# Altium schematic symbol library con-deutsch_2.SCHLIB: 27 symbols (part 2 of 2)
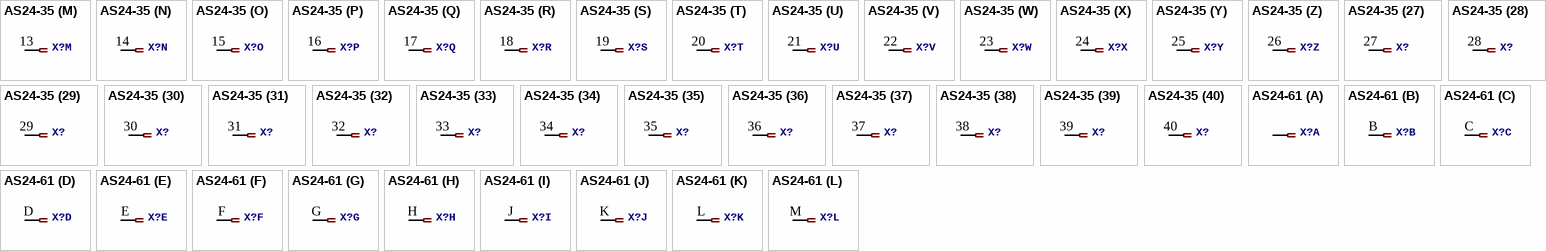
[diagram p17: symbols AS24-35 to AS24-61]

## AS24-35
designator X?, comment DEUTSCH Connector  (value not drawn)
GateName_1: /1; SymbolName_1: PINF_VAL; GateName_2: /2; SymbolName_2: ASPINF; GateName_3: /3; GateName_4: /4; GateName_5: /5; GateName_6: /6; GateName_7: /7; GateName_8: /8; GateName_9: /9; GateName_10: /10; GateName_11: /11; GateName_12: /12; GateName_13: /13; GateName_14: /14; GateName_15: /15; GateName_16: /16; GateName_17: /17; GateName_18: /18; GateName_19: /19; GateName_20: /20; GateName_21: /21; GateName_22: /22; GateName_23: /23; GateName_24: /24; GateName_25: /25; GateName_26: /26; GateName_27: /27; GateName_28: /28; GateName_29: /29; GateName_30: /30; GateName_31: /31; GateName_32: /32; GateName_33: /33; GateName_34: /34; GateName_35: /35; GateName_36: /36; GateName_37: /37; GateName_38: /38; GateName_39: /39; GateName_40: /40; GateName_41: /41; GateName_42: /42; GateName_43: /43; GateName_44: /44; GateName_45: /45; GateName_46: /46; GateName_47: /47; GateName_48: /48; GateName_49: /49; GateName_50: /50; GateName_51: /51; GateName_52: /52; GateName_53: /53; GateName_54: /54; GateName_55: /55; GateName_56: /56; GateName_57: /57; GateName_58: /58; GateName_59: /59; GateName_60: /60; GateName_61: /61; GateName_62: /62; GateName_63: /63; GateName_64: /64; GateName_65: /65; GateName_66: /66; GateName_67: /67; GateName_68: /68; GateName_69: /69; GateName_70: /70; GateName_71: /71; GateName_72: /72; GateName_73: /73; GateName_74: /74; GateName_75: /75; GateName_76: /76; GateName_77: /77; GateName_78: /78; GateName_79: /79; GateName_80: /80; GateName_81: /81; GateName_82: /82; GateName_83: /83; GateName_84: /84; GateName_85: /85; GateName_86: /86; GateName_87: /87; GateName_88: /88; GateName_89: /89; GateName_90: /90; GateName_91: /91; GateName_92: /92; GateName_93: /93; GateName_94: /94; GateName_95: /95; GateName_96: /96; GateName_97: /97; GateName_98: /98; GateName_99: /99; GateName_100: /100; GateName_101: /101; GateName_102: /102; GateName_103: /103; GateName_104: /104; GateName_105: /105; GateName_106: /106; GateName_107: /107; GateName_108: /108; GateName_109: /109; GateName_110: /110; GateName_111: /111; GateName_112: /112; GateName_113: /113; GateName_114: /114; GateName_115: /115; GateName_116: /116; GateName_117: /117; GateName_118: /118; GateName_119: /119; GateName_120: /120; GateName_121: /121; GateName_122: /122; GateName_123: /123; GateName_124: /124; GateName_125: /125; GateName_126: /126; GateName_127: /127; GateName_128: /128; DeviceSetName: AS24-35; SymbolName_3: ASPINF; SymbolName_4: ASPINF; SymbolName_5: ASPINF; SymbolName_6: ASPINF; SymbolName_7: ASPINF; SymbolName_8: ASPINF; SymbolName_9: ASPINF; SymbolName_10: ASPINF; SymbolName_11: ASPINF; SymbolName_12: ASPINF; SymbolName_13: ASPINF; SymbolName_14: ASPINF; SymbolName_15: ASPINF; SymbolName_16: ASPINF; SymbolName_17: ASPINF; SymbolName_18: ASPINF; SymbolName_19: ASPINF; SymbolName_20: ASPINF; SymbolName_21: ASPINF; SymbolName_22: ASPINF; SymbolName_23: ASPINF; SymbolName_24: ASPINF; SymbolName_25: ASPINF; SymbolName_26: ASPINF; SymbolName_27: ASPINF; SymbolName_28: ASPINF; SymbolName_29: ASPINF; SymbolName_30: ASPINF; SymbolName_31: ASPINF; SymbolName_32: ASPINF; SymbolName_33: ASPINF; SymbolName_34: ASPINF; SymbolName_35: ASPINF; SymbolName_36: ASPINF; SymbolName_37: ASPINF; SymbolName_38: ASPINF; SymbolName_39: ASPINF; SymbolName_40: ASPINF; SymbolName_41: ASPINF; SymbolName_42: ASPINF; SymbolName_43: ASPINF; SymbolName_44: ASPINF; SymbolName_45: ASPINF; SymbolName_46: ASPINF; SymbolName_47: ASPINF; SymbolName_48: ASPINF; SymbolName_49: ASPINF; SymbolName_50: ASPINF; SymbolName_51: ASPINF; SymbolName_52: ASPINF; SymbolName_53: ASPINF; SymbolName_54: ASPINF; SymbolName_55: ASPINF; SymbolName_56: ASPINF; SymbolName_57: ASPINF; SymbolName_58: ASPINF; SymbolName_59: ASPINF; SymbolName_60: ASPINF; SymbolName_61: ASPINF; SymbolName_62: ASPINF; SymbolName_63: ASPINF; SymbolName_64: ASPINF; SymbolName_65: ASPINF; SymbolName_66: ASPINF; SymbolName_67: ASPINF; SymbolName_68: ASPINF; SymbolName_69: ASPINF; SymbolName_70: ASPINF; SymbolName_71: ASPINF; SymbolName_72: ASPINF; SymbolName_73: ASPINF; SymbolName_74: ASPINF; SymbolName_75: ASPINF; SymbolName_76: ASPINF; SymbolName_77: ASPINF; SymbolName_78: ASPINF; SymbolName_79: ASPINF; SymbolName_80: ASPINF; SymbolName_81: ASPINF; SymbolName_82: ASPINF; SymbolName_83: ASPINF; SymbolName_84: ASPINF; SymbolName_85: ASPINF; SymbolName_86: ASPINF; SymbolName_87: ASPINF; SymbolName_88: ASPINF; SymbolName_89: ASPINF; SymbolName_90: ASPINF; SymbolName_91: ASPINF; SymbolName_92: ASPINF; SymbolName_93: ASPINF; SymbolName_94: ASPINF; SymbolName_95: ASPINF; SymbolName_96: ASPINF; SymbolName_97: ASPINF; SymbolName_98: ASPINF; SymbolName_99: ASPINF; SymbolName_100: ASPINF; SymbolName_101: ASPINF; SymbolName_102: ASPINF; SymbolName_103: ASPINF; SymbolName_104: ASPINF; SymbolName_105: ASPINF; SymbolName_106: ASPINF; SymbolName_107: ASPINF; SymbolName_108: ASPINF; SymbolName_109: ASPINF; SymbolName_110: ASPINF; SymbolName_111: ASPINF; SymbolName_112: ASPINF; SymbolName_113: ASPINF; SymbolName_114: ASPINF; SymbolName_115: ASPINF; SymbolName_116: ASPINF; SymbolName_117: ASPINF; SymbolName_118: ASPINF; SymbolName_119: ASPINF; SymbolName_120: ASPINF; SymbolName_121: ASPINF; SymbolName_122: ASPINF; SymbolName_123: ASPINF; SymbolName_124: ASPINF; SymbolName_125: ASPINF; SymbolName_126: ASPINF; SymbolName_127: ASPINF; SymbolName_128: ASPINF; LibraryName: con-deutsch_2; Package: AS24-35
footprint AS24-35
part A pins: 1
part B pins: 2 1
part C pins: 3 1
part D pins: 4 1
part E pins: 5 1
part F pins: 6 1
part G pins: 7 1
part H pins: 8 1
part I pins: 9 1
part J pins: 10 1
part K pins: 11 1
part L pins: 12 1
part M pins: 13 1
part N pins: 14 1
part O pins: 15 1
part P pins: 16 1
part Q pins: 17 1
part R pins: 18 1
part S pins: 19 1
part T pins: 20 1
part U pins: 21 1
part V pins: 22 1
part W pins: 23 1
part X pins: 24 1
part Y pins: 25 1
part Z pins: 26 1
part 27 pins: 27 1
part 28 pins: 28 1
part 29 pins: 29 1
part 30 pins: 30 1
part 31 pins: 31 1
part 32 pins: 32 1
part 33 pins: 33 1
part 34 pins: 34 1
part 35 pins: 35 1
part 36 pins: 36 1
part 37 pins: 37 1
part 38 pins: 38 1
part 39 pins: 39 1
part 40 pins: 40 1
part 41 pins: 41 1
part 42 pins: 42 1
part 43 pins: 43 1
part 44 pins: 44 1
part 45 pins: 45 1
part 46 pins: 46 1
part 47 pins: 47 1
part 48 pins: 48 1
part 49 pins: 49 1
part 50 pins: 50 1
part 51 pins: 51 1
part 52 pins: 52 1
part 53 pins: 53 1
part 54 pins: 54 1
part 55 pins: 55 1
part 56 pins: 56 1
part 57 pins: 57 1
part 58 pins: 58 1
part 59 pins: 59 1
part 60 pins: 60 1
part 61 pins: 61 1
part 62 pins: 62 1
part 63 pins: 63 1
part 64 pins: 64 1
part 65 pins: 65 1
part 66 pins: 66 1
part 67 pins: 67 1
part 68 pins: 68 1
part 69 pins: 69 1
part 70 pins: 70 1
part 71 pins: 71 1
part 72 pins: 72 1
part 73 pins: 73 1
part 74 pins: 74 1
part 75 pins: 75 1
part 76 pins: 76 1
part 77 pins: 77 1
part 78 pins: 78 1
part 79 pins: 79 1
part 80 pins: 80 1
part 81 pins: 81 1
part 82 pins: 82 1
part 83 pins: 83 1
part 84 pins: 84 1
part 85 pins: 85 1
part 86 pins: 86 1
part 87 pins: 87 1
part 88 pins: 88 1
part 89 pins: 89 1
part 90 pins: 90 1
part 91 pins: 91 1
part 92 pins: 92 1
part 93 pins: 93 1
part 94 pins: 94 1
part 95 pins: 95 1
part 96 pins: 96 1
part 97 pins: 97 1
part 98 pins: 98 1
part 99 pins: 99 1
part 100 pins: 100 1
part 101 pins: 101 1
part 102 pins: 102 1
part 103 pins: 103 1
part 104 pins: 104 1
part 105 pins: 105 1
part 106 pins: 106 1
part 107 pins: 107 1
part 108 pins: 108 1
part 109 pins: 109 1
part 110 pins: 110 1
part 111 pins: 111 1
part 112 pins: 112 1
part 113 pins: 113 1
part 114 pins: 114 1
part 115 pins: 115 1
part 116 pins: 116 1
part 117 pins: 117 1
part 118 pins: 118 1
part 119 pins: 119 1
part 120 pins: 120 1
part 121 pins: 121 1
part 122 pins: 122 1
part 123 pins: 123 1
part 124 pins: 124 1
part 125 pins: 125 1
part 126 pins: 126 1
part 127 pins: 127 1
part 128 pins: 128 1

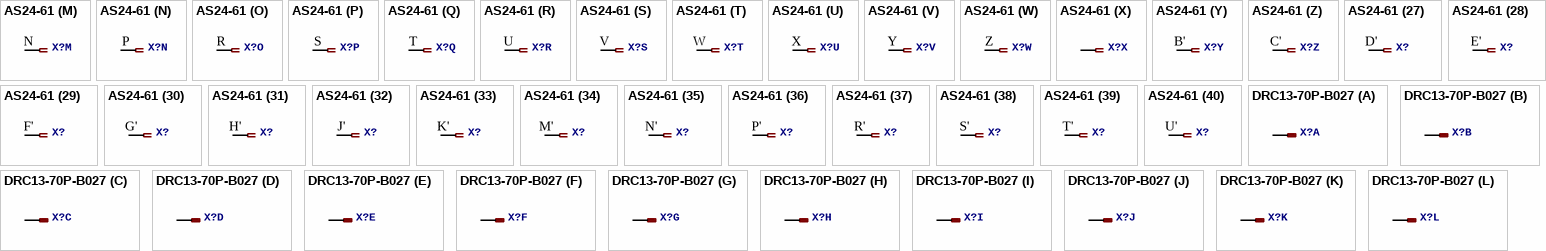
[diagram p15: symbols AS24-61 to DRC13-70P-B027]

## AS24-61
designator X?, comment DEUTSCH Connector  (value not drawn)
GateName_1: /A; SymbolName_1: PINF_VAL; GateName_2: /B; SymbolName_2: ASPINF; GateName_3: /C; GateName_4: /D; GateName_5: /E; GateName_6: /F; GateName_7: /G; GateName_8: /H; GateName_9: /J; GateName_10: /K; GateName_11: /L; GateName_12: /M; GateName_13: /N; GateName_14: /P; GateName_15: /R; GateName_16: /S; GateName_17: /T; GateName_18: /U; GateName_19: /V; GateName_20: /W; GateName_21: /X; GateName_22: /Y; GateName_23: /Z; GateName_24: /A'; GateName_25: /B'; GateName_26: /C'; GateName_27: /D'; GateName_28: /E'; GateName_29: /F'; GateName_30: /G'; GateName_31: /H'; GateName_32: /J'; GateName_33: /K'; GateName_34: /M'; GateName_35: /N'; GateName_36: /P'; GateName_37: /R'; GateName_38: /S'; GateName_39: /T'; GateName_40: /U'; GateName_41: /V'; GateName_42: /W'; GateName_43: /X'; GateName_44: /Y'; GateName_45: /Z'; GateName_46: /AA; GateName_47: /BB; GateName_48: /CC; GateName_49: /DD; GateName_50: /EE; GateName_51: /FF; GateName_52: /GG; GateName_53: /HH; GateName_54: /JJ; GateName_55: /KK; GateName_56: /LL; GateName_57: /MM; GateName_58: /NN; GateName_59: /PP; GateName_60: /I'; GateName_61: /Q'; DeviceSetName: AS24-61; SymbolName_3: ASPINF; SymbolName_4: ASPINF; SymbolName_5: ASPINF; SymbolName_6: ASPINF; SymbolName_7: ASPINF; SymbolName_8: ASPINF; SymbolName_9: ASPINF; SymbolName_10: ASPINF; SymbolName_11: ASPINF; SymbolName_12: ASPINF; SymbolName_13: ASPINF; SymbolName_14: ASPINF; SymbolName_15: ASPINF; SymbolName_16: ASPINF; SymbolName_17: ASPINF; SymbolName_18: ASPINF; SymbolName_19: ASPINF; SymbolName_20: ASPINF; SymbolName_21: ASPINF; SymbolName_22: ASPINF; SymbolName_23: ASPINF; SymbolName_24: PINF_VAL; SymbolName_25: ASPINF; SymbolName_26: ASPINF; SymbolName_27: ASPINF; SymbolName_28: ASPINF; SymbolName_29: ASPINF; SymbolName_30: ASPINF; SymbolName_31: ASPINF; SymbolName_32: ASPINF; SymbolName_33: ASPINF; SymbolName_34: ASPINF; SymbolName_35: ASPINF; SymbolName_36: ASPINF; SymbolName_37: ASPINF; SymbolName_38: ASPINF; SymbolName_39: ASPINF; SymbolName_40: ASPINF; SymbolName_41: ASPINF; SymbolName_42: ASPINF; SymbolName_43: ASPINF; SymbolName_44: ASPINF; SymbolName_45: ASPINF; SymbolName_46: PINF_VAL; SymbolName_47: ASPINF; SymbolName_48: ASPINF; SymbolName_49: ASPINF; SymbolName_50: ASPINF; SymbolName_51: ASPINF; SymbolName_52: ASPINF; SymbolName_53: ASPINF; SymbolName_54: ASPINF; SymbolName_55: ASPINF; SymbolName_56: ASPINF; SymbolName_57: ASPINF; SymbolName_58: ASPINF; SymbolName_59: ASPINF; SymbolName_60: ASPINF; SymbolName_61: ASPINF; LibraryName: con-deutsch_2; Package: AS24-61
footprint AS24-61
part A pins: A 1
part B pins: B 1
part C pins: C 1
part D pins: D 1
part E pins: E 1
part F pins: F 1
part G pins: G 1
part H pins: H 1
part I pins: J 1
part J pins: K 1
part K pins: L 1
part L pins: M 1
part M pins: N 1
part N pins: P 1
part O pins: R 1
part P pins: S 1
part Q pins: T 1
part R pins: U 1
part S pins: V 1
part T pins: W 1
part U pins: X 1
part V pins: Y 1
part W pins: Z 1
part X pins: A' 1
part Y pins: B' 1
part Z pins: C' 1
part 27 pins: D' 1
part 28 pins: E' 1
part 29 pins: F' 1
part 30 pins: G' 1
part 31 pins: H' 1
part 32 pins: J' 1
part 33 pins: K' 1
part 34 pins: M' 1
part 35 pins: N' 1
part 36 pins: P' 1
part 37 pins: R' 1
part 38 pins: S' 1
part 39 pins: T' 1
part 40 pins: U' 1
part 41 pins: V' 1
part 42 pins: W' 1
part 43 pins: X' 1
part 44 pins: Y' 1
part 45 pins: Z' 1
part 46 pins: AA 1
part 47 pins: BB 1
part 48 pins: CC 1
part 49 pins: DD 1
part 50 pins: EE 1
part 51 pins: FF 1
part 52 pins: GG 1
part 53 pins: HH 1
part 54 pins: JJ 1
part 55 pins: KK 1
part 56 pins: LL 1
part 57 pins: MM 1
part 58 pins: NN 1
part 59 pins: PP 1
part 60 pins: I' 1
part 61 pins: Q' 1

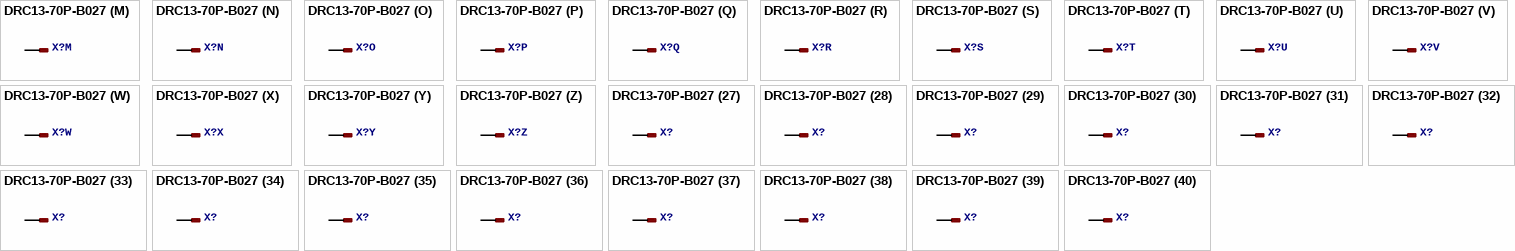
[diagram p16: symbol DRC13-70P-B027]

## DRC13-70P-B027
designator X?, comment DRC13-70P-B027Source: DRC13_70P_B027_051010_Einbau_00.pdf  (value not drawn)
GateName_1: -1; SymbolName_1: PINM_VAL; GateName_2: -2; SymbolName_2: PINM; GateName_3: -3; GateName_4: -4; GateName_5: -5; GateName_6: -6; GateName_7: -7; GateName_8: -8; GateName_9: -9; GateName_10: -10; GateName_11: -11; GateName_12: -12; GateName_13: -13; GateName_14: -14; GateName_15: -15; GateName_16: -16; GateName_17: -17; GateName_18: -18; GateName_19: -19; GateName_20: -20; GateName_21: -21; GateName_22: -22; GateName_23: -23; GateName_24: -24; GateName_25: -25; GateName_26: -26; GateName_27: -27; GateName_28: -28; GateName_29: -29; GateName_30: -30; GateName_31: -31; GateName_32: -32; GateName_33: -33; GateName_34: -34; GateName_35: -35; GateName_36: -36; GateName_37: -37; GateName_38: -38; GateName_39: -39; GateName_40: -40; GateName_41: -41; GateName_42: -42; GateName_43: -43; GateName_44: -44; GateName_45: -45; GateName_46: -46; GateName_47: -47; GateName_48: -48; GateName_49: -49; GateName_50: -50; GateName_51: -51; GateName_52: -52; GateName_53: -53; GateName_54: -54; GateName_55: -55; GateName_56: -56; GateName_57: -57; GateName_58: -58; GateName_59: -59; GateName_60: -60; GateName_61: -61; GateName_62: -62; GateName_63: -63; GateName_64: -64; GateName_65: -65; GateName_66: -66; GateName_67: -67; GateName_68: -68; GateName_69: -69; GateName_70: -70; SymbolName_3: PINM; SymbolName_4: PINM; SymbolName_5: PINM; SymbolName_6: PINM; SymbolName_7: PINM; SymbolName_8: PINM; SymbolName_9: PINM; SymbolName_10: PINM; SymbolName_11: PINM; SymbolName_12: PINM; SymbolName_13: PINM; SymbolName_14: PINM; SymbolName_15: PINM; SymbolName_16: PINM; SymbolName_17: PINM; SymbolName_18: PINM; SymbolName_19: PINM; SymbolName_20: PINM; SymbolName_21: PINM; SymbolName_22: PINM; SymbolName_23: PINM; SymbolName_24: PINM; SymbolName_25: PINM; SymbolName_26: PINM; SymbolName_27: PINM; SymbolName_28: PINM; SymbolName_29: PINM; SymbolName_30: PINM; SymbolName_31: PINM; SymbolName_32: PINM; SymbolName_33: PINM; SymbolName_34: PINM; SymbolName_35: PINM; SymbolName_36: PINM; SymbolName_37: PINM; SymbolName_38: PINM; SymbolName_39: PINM; SymbolName_40: PINM; SymbolName_41: PINM; SymbolName_42: PINM; SymbolName_43: PINM; SymbolName_44: PINM; SymbolName_45: PINM; SymbolName_46: PINM; SymbolName_47: PINM; SymbolName_48: PINM; SymbolName_49: PINM; SymbolName_50: PINM; SymbolName_51: PINM; SymbolName_52: PINM; SymbolName_53: PINM; SymbolName_54: PINM; SymbolName_55: PINM; SymbolName_56: PINM; SymbolName_57: PINM; SymbolName_58: PINM; SymbolName_59: PINM; SymbolName_60: PINM; SymbolName_61: PINM; SymbolName_62: PINM; SymbolName_63: PINM; SymbolName_64: PINM; SymbolName_65: PINM; SymbolName_66: PINM; SymbolName_67: PINM; SymbolName_68: PINM; SymbolName_69: PINM; SymbolName_70: PINM; LibraryName: con-deutsch_2; DeviceSetName: DRC13-70P-B027; Package: CDG-DRC13-70P-B027
footprint CDG-DRC13-70P-B027
part A pins: 1
part B pins: 2 1
part C pins: 3 1
part D pins: 4 1
part E pins: 5 1
part F pins: 6 1
part G pins: 7 1
part H pins: 8 1
part I pins: 9 1
part J pins: 10 1
part K pins: 11 1
part L pins: 12 1
part M pins: 13 1
part N pins: 14 1
part O pins: 15 1
part P pins: 16 1
part Q pins: 17 1
part R pins: 18 1
part S pins: 19 1
part T pins: 20 1
part U pins: 21 1
part V pins: 22 1
part W pins: 23 1
part X pins: 24 1
part Y pins: 25 1
part Z pins: 26 1
part 27 pins: 27 1
part 28 pins: 28 1
part 29 pins: 29 1
part 30 pins: 30 1
part 31 pins: 31 1
part 32 pins: 32 1
part 33 pins: 33 1
part 34 pins: 34 1
part 35 pins: 35 1
part 36 pins: 36 1
part 37 pins: 37 1
part 38 pins: 38 1
part 39 pins: 39 1
part 40 pins: 40 1
part 41 pins: 41 1
part 42 pins: 42 1
part 43 pins: 43 1
part 44 pins: 44 1
part 45 pins: 45 1
part 46 pins: 46 1
part 47 pins: 47 1
part 48 pins: 48 1
part 49 pins: 49 1
part 50 pins: 50 1
part 51 pins: 51 1
part 52 pins: 52 1
part 53 pins: 53 1
part 54 pins: 54 1
part 55 pins: 55 1
part 56 pins: 56 1
part 57 pins: 57 1
part 58 pins: 58 1
part 59 pins: 59 1
part 60 pins: 60 1
part 61 pins: 61 1
part 62 pins: 62 1
part 63 pins: 63 1
part 64 pins: 64 1
part 65 pins: 65 1
part 66 pins: 66 1
part 67 pins: 67 1
part 68 pins: 68 1
part 69 pins: 69 1
part 70 pins: 70 1